# Altium schematic symbol library ANT_SPIRAL_868MHZ.Schlib: 1 symbol
Pins are listed as number, name and electrical type; pins without a type are passive.

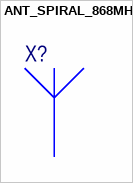
[diagram p0: symbol ANT_SPIRAL_868MHZ]

## ANT_SPIRAL_868MHZ
designator X?  (mechanical)
868MHZ HELICAL ANTENNA; Manufacturer: China; Manufacturer Part Number: SW868-TH13; TH: 1